# Altium schematic symbol library ACM共模电感.SchLib: 1 symbol
Pins are listed as number, name and electrical type; pins without a type are passive.

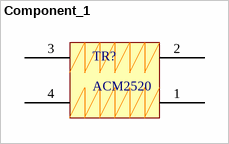
[diagram p0: symbol Component_1]

## Component_1
designator TR?, comment ACM2520
pins: 1 3, 2, 3 0, 4